# Altium footprint library SFE-Custom-Footprints.PcbLib: 154 footprints (part 5 of 10)
Each footprint in its own frame and in the unit in brackets; x right, y up, seen from the top. Pads: shape width x height; smd on the part's side, far side on the other; paste and mask are expansions set on the pad; w line width, h text height; cw(c..) or ccw(c..) is an arc to the next point about the centre after c.
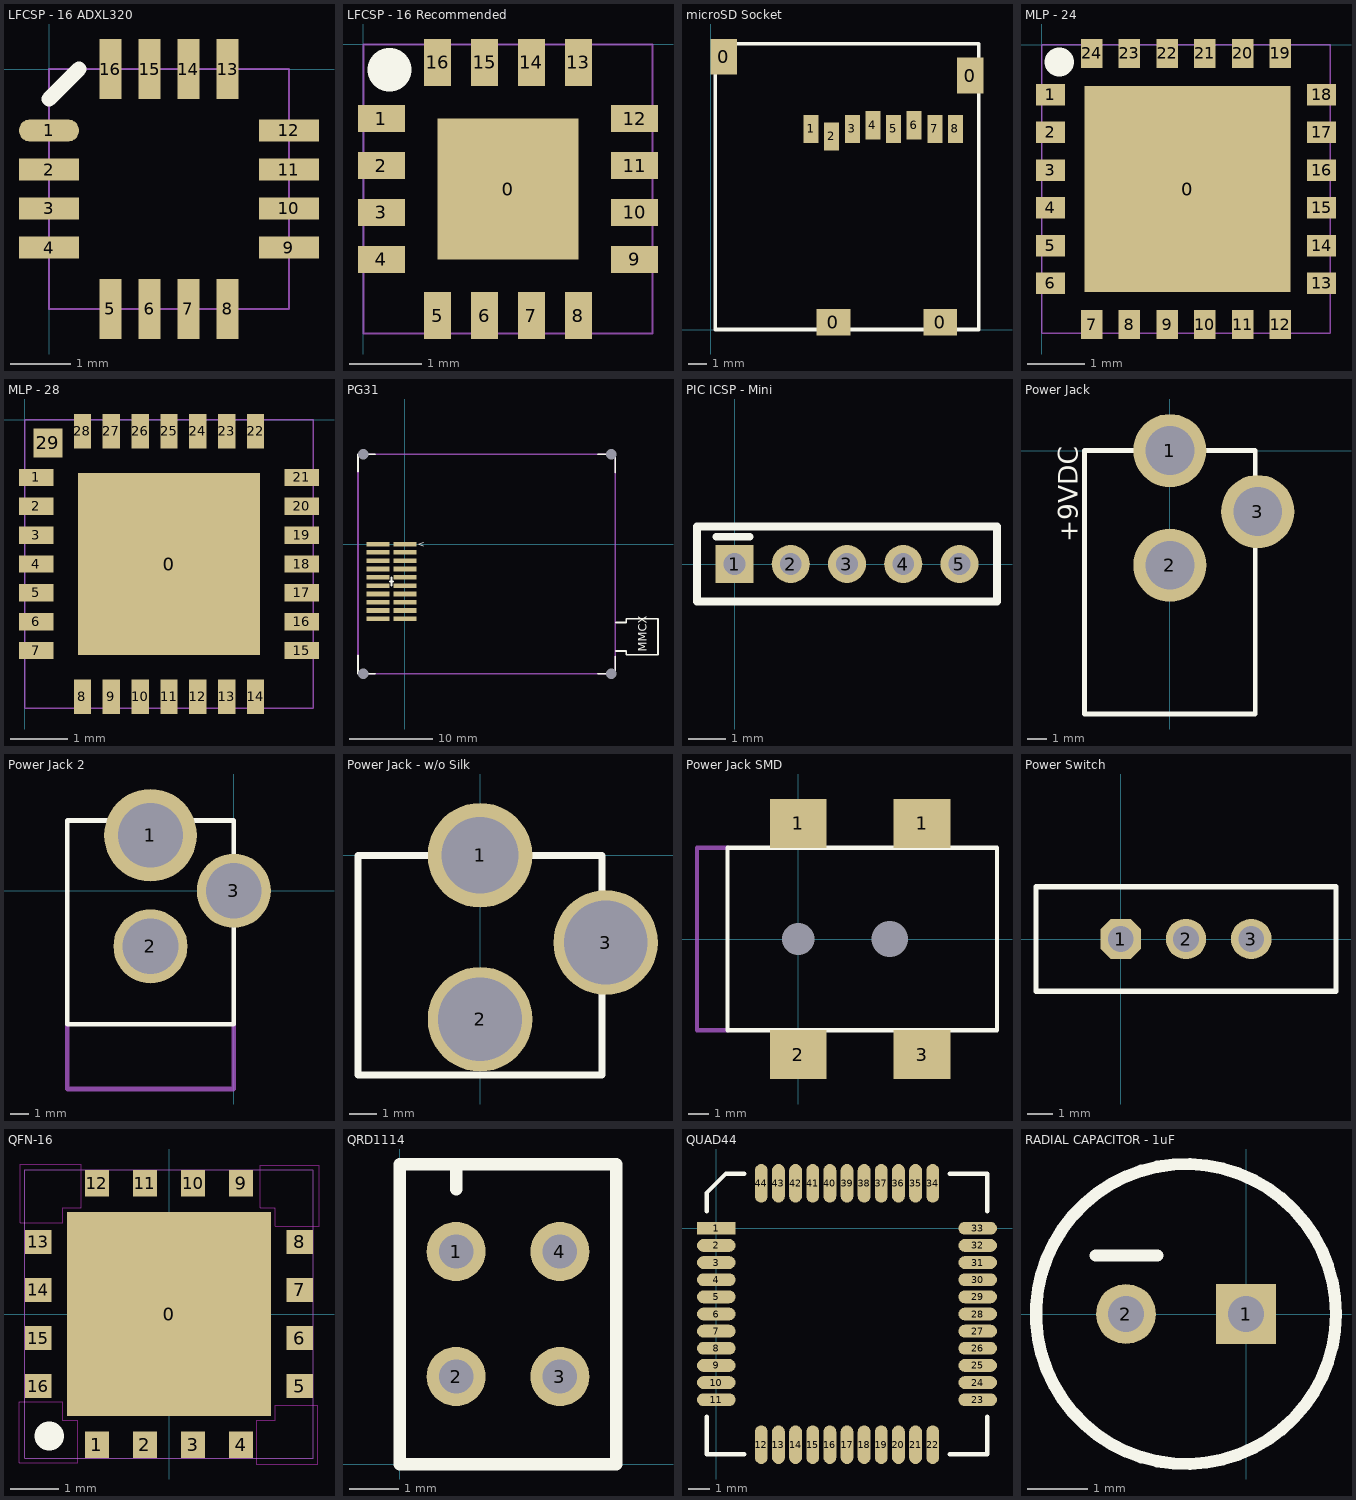
[diagram p4: the footprints below, top view; thin cyan lines are the x and y axes]

## LFCSP - 16 ADXL320 [mm]
pads (16):
  oval 1x0.37 smd: 1(0,-1.025)
  rect 1x0.37 smd: 2(0,-1.675) 3(0,-2.325) 4(0,-2.975) 9(4,-2.975) 10(4,-2.325) 11(4,-1.675) 12(4,-1.025)
  rect 0.37x1 smd: 5(1.025,-4) 6(1.675,-4) 7(2.325,-4) 8(2.975,-4) 13(2.975,0) 14(2.325,0) 15(1.675,0) 16(1.025,0)
Top Overlay:
  lines w0.254: 0,-0.5 0.5,0
Mechanical 1:
  lines w0.025: 0,-4 0,0 4,0 4,-4 0,-4

## LFCSP - 16 Recommended [mm]
pads (17):
  rect 1.95x1.95 smd paste-0.5: 0(2,-2)
  rect 0.65x0.37 smd: 1(0.25,-1.025) 2(0.25,-1.675) 3(0.25,-2.325) 4(0.25,-2.975) 9(3.75,-2.975) 10(3.75,-2.325) 11(3.75,-1.675) 12(3.75,-1.025)
  rect 0.37x0.65 smd: 5(1.025,-3.75) 6(1.675,-3.75) 7(2.325,-3.75) 8(2.975,-3.75) 13(2.975,-0.25) 14(2.325,-0.25) 15(1.675,-0.25) 16(1.025,-0.25)
Top Overlay:
  lines w0.6: 0.356,-0.349 0.366,-0.349
Mechanical 1:
  lines w0.025: 0,-4 0,0 4,0 4,-4 0,-4

## microSD Socket [mm]
pads (12):
  rect 1.4x1.9 smd: 0(0.7,14.55) 0(13.85,13.55)
  rect 1.8x1.4 smd: 0(6.55,0.4) 0(12.25,0.4)
  rect 0.8x1.5 smd: 1(5.36,10.7) 2(6.46,10.3) 3(7.56,10.7) 4(8.66,10.9) 5(9.76,10.7) 6(10.86,10.9) 7(11.96,10.7) 8(13.06,10.7)
Top Overlay:
  lines w0.203: 0.25,0 0.25,15.25 14.3,15.25 14.3,0 0.25,0

## MLP - 24 [mm]
pads (25):
  rect 3.57x3.57 smd paste-1.1: 0(2.53,-2.5)
  rect 0.5x0.37 smd: 1(0.15,-0.865) 2(0.15,-1.519) 3(0.15,-2.173) 4(0.15,-2.827) 5(0.15,-3.481) 6(0.15,-4.135) 13(4.85,-4.135) 14(4.85,-3.481) 15(4.85,-2.827) 16(4.85,-2.173) 17(4.85,-1.519) 18(4.85,-0.865)
  rect 0.37x0.5 smd: 7(0.865,-4.85) 8(1.519,-4.85) 9(2.173,-4.85) 10(2.827,-4.85) 11(3.481,-4.85) 12(4.135,-4.85) 19(4.135,-0.15) 20(3.481,-0.15) 21(2.827,-0.15) 22(2.173,-0.15) 23(1.519,-0.15) 24(0.865,-0.15)
Top Overlay:
  lines w0.508: 0.302,-0.3 0.308,-0.3
Mechanical 1:
  lines w0.025: 0,-5 5,-5 5,0 0,0 0,-5

## MLP - 28 [mm]
pads (30):
  rect 3.15x3.15 smd paste-1.1: 0(2.5,-2.5)
  rect 0.6x0.3 smd: 1(0.2,-1) 2(0.2,-1.5) 3(0.2,-2) 4(0.2,-2.5) 5(0.2,-3) 6(0.2,-3.5) 7(0.2,-4) 15(4.8,-4) 16(4.8,-3.5) 17(4.8,-3) 18(4.8,-2.5) 19(4.8,-2) 20(4.8,-1.5) 21(4.8,-1)
  rect 0.3x0.6 smd: 8(1,-4.8) 9(1.5,-4.8) 10(2,-4.8) 11(2.5,-4.8) 12(3,-4.8) 13(3.5,-4.8) 14(4,-4.8) 22(4,-0.2) 23(3.5,-0.2) 24(3,-0.2) 25(2.5,-0.2) 26(2,-0.2) 27(1.5,-0.2) 28(1,-0.2)
  rect 0.5x0.5 smd paste-0.05: 29(0.4,-0.4)
Mechanical 1:
  lines w0.025: 0,-5 5,-5 5,0 0,0 0,-5

## PG31 [mm]
pads (24):
  round 0 hole 1.27: 0(-5.003,-15.603) 0(-5.003,10.813) 0(24.842,-15.603) 0(24.842,10.813)
  rect 2.755x0.56 smd: 1(0,0) 2(-3.215,0) 3(0,-1) 4(-3.215,-1) 5(0,-2) 6(-3.215,-2) 7(0,-3) 8(-3.215,-3) 9(0,-4) 10(-3.215,-4) 11(0,-5) 12(-3.215,-5) 13(0,-6) 14(-3.215,-6) 15(0,-7) 16(-3.215,-7) 17(0,-8) 18(-3.215,-8) 19(0,-9) 20(-3.215,-9)
Top Overlay:
  lines w0.203: -5.638,-13.379 -5.638,-15.603 -3.552,-15.603 ; -5.638,8.727 -5.638,10.813 -3.552,10.813 ; 23.264,-15.603 25.35,-15.603 25.35,-13.517 ; 23.264,10.813 25.35,10.813 25.35,8.589 ; 25.4,-12.865 26.67,-12.865 26.67,-13.31 30.48,-13.31 30.48,-8.992 26.67,-8.992 26.67,-9.436 25.4,-9.436
  lines w0.254: -1.807,-4.5 -1.407,-4.5 ; -1.607,-5 -1.607,-4
  text "<" at 1.566,-0.386 h0.76
  text "MMCX" at 29.114,-12.973 h1.02
Mechanical 1:
  lines w0.203: 25.35,-15.603 -5.638,-15.603 -5.638,10.813 25.35,10.813 25.35,-15.41

## PIC ICSP - Mini [mil]
pads (5):
  rect 40x40 hole 23: 1(0,0)
  round 40 hole 23: 2(59.05,0) 3(118.11,0) 4(177.16,0) 5(236.22,0)
Top Overlay:
  lines w8: -19.27,28.56 16.02,28.56 ; -39.37,-39.37 275.59,-39.37 275.59,39.37 -39.37,39.37 -39.37,-39.37

## Power Jack [mil]
pads (3):
  round 150 hole 100: 1(0,0) 2(0,-235) 3(180,-125)
Top Overlay:
  lines w10: -175,-540 -175,0 175,0 175,-540 -175,-540
  text "+9VDC" at -189,-188 h40

## Power Jack 2 [mm]
pads (3):
  round 5 hole 3.5: 1(-4.5,3)
  round 4 hole 3: 2(-4.5,-3) 3(0,0)
Top Overlay:
  lines w0.254: -9,-7.2 -9,3.8 0,3.8 0,-7.2 -8.979,-7.2
Mechanical 1:
  lines w0.254: -9,-7.2 -9,-10.7 0,-10.7 0,-7.2

## Power Jack - w/o Silk [mil]
pads (3):
  round 150 hole 110: 1(0,0)
  round 150 hole 120: 2(0,-235) 3(180,-125)
Top Overlay:
  lines w10: -175,-314.96 -175,0 175,0 175,-314.96 -175,-314.96

## Power Jack SMD [mm]
pads (6):
  round 0 hole 1.6: 0(0,0)
  round 0 hole 1.8: 0(4.5,0)
  rect 2.8x2.4 smd: 1(0,5.7) 1(6.1,5.7) 2(0,-5.7) 3(6.1,-5.7)
Top Overlay:
  lines w0.203: -3.5,-4.5 -3.5,4.5 9.8,4.5 9.8,-4.5 -3.5,-4.5
Mechanical 1:
  lines w0.203: -3.5,-4.5 -5,-4.5 -5,4.5 -3.5,4.5

## Power Switch [mil]
pads (3):
  oct 62x62 hole 39.4: 1(0,0)
  round 62 hole 39.4: 2(100,0) 3(200,0)
Top Overlay:
  lines w8: -130,-80 330,-80 330,80 -130,80 -130,-80

## QFN-16 [mm]
pads (17):
  rect 4.25x4.25 smd paste-1.2: 0(0,0)
  rect 0.5x0.55 smd: 1(-1.5,-2.725) 2(-0.5,-2.725) 3(0.5,-2.725) 4(1.5,-2.725) 9(1.5,2.725) 10(0.5,2.725) 11(-0.5,2.725) 12(-1.5,2.725)
  rect 0.55x0.5 smd: 5(2.725,-1.5) 6(2.725,-0.5) 7(2.725,0.5) 8(2.725,1.5) 13(-2.725,1.5) 14(-2.725,0.5) 15(-2.725,-0.5) 16(-2.725,-1.5)
Top Overlay:
  lines w0.6: -2.499,-2.54 -2.489,-2.54
Keep-Out Layer:
  lines w0.025: -3.124,-3.099 -3.124,-1.829 -2.21,-1.829 -2.21,-2.21 -1.905,-2.21 -1.905,-3.099 -3.124,-3.099 ; -3.099,1.905 -3.099,3.124 -1.829,3.124 -1.829,2.21 -2.21,2.21 -2.21,1.905 -3.099,1.905 ; 1.829,-3.124 1.829,-2.21 2.21,-2.21 2.21,-1.905 3.099,-1.905 3.099,-3.124 1.829,-3.124 ; 1.905,2.21 1.905,3.099 3.124,3.099 3.124,1.829 2.21,1.829 2.21,2.21 1.905,2.21
Mechanical 1:
  lines w0.025: -3,-3 -3,3 3,3 3,-3 -3,-3

## QRD1114 [mm]
pads (4):
  round 1.2 hole 0.7: 1(1.143,4.318) 2(1.143,1.778) 3(3.251,1.778) 4(3.251,4.318)
Top Overlay:
  lines w0.254: 1.143,5.588 1.143,6.096 ; 0,0 4.394,0 4.394,6.096 0,6.096 0,0

## QUAD44 [mm]
pads (44):
  rect 1.8x0.6 smd: 1(0,0)
  oval 1.8x0.6 smd: 2(0,-0.8) 3(0,-1.6) 4(0,-2.4) 5(0,-3.2) 6(0,-4) 7(0,-4.8) 8(0,-5.6) 9(0,-6.4) 10(0,-7.2) 11(0,-8) 23(12.2,-8) 24(12.2,-7.2) 25(12.2,-6.4) 26(12.2,-5.6) 27(12.2,-4.8) 28(12.2,-4) 29(12.2,-3.2) 30(12.2,-2.4) 31(12.2,-1.6) 32(12.2,-0.8) 33(12.2,0)
  oval 0.6x1.8 smd: 12(2.1,-10.1) 13(2.9,-10.1) 14(3.7,-10.1) 15(4.5,-10.1) 16(5.3,-10.1) 17(6.1,-10.1) 18(6.9,-10.1) 19(7.7,-10.1) 20(8.5,-10.1) 21(9.3,-10.1) 22(10.1,-10.1) 34(10.1,2.1) 35(9.3,2.1) 36(8.5,2.1) 37(7.7,2.1) 38(6.9,2.1) 39(6.1,2.1) 40(5.3,2.1) 41(4.5,2.1) 42(3.7,2.1) 43(2.9,2.1) 44(2.1,2.1)
Top Overlay:
  lines w0.2: -0.45,-8.8 -0.45,-10.55 1.3,-10.55 ; -0.45,0.8 -0.45,1.65 0.45,2.55 1.3,2.55 ; 10.9,-10.55 12.65,-10.55 12.65,-8.8 ; 10.9,2.55 12.65,2.55 12.65,0.8

## RADIAL CAPACITOR - 1uF [mm]
pads (2):
  rect 1x1 hole 0.6: 1(0,0)
  round 1 hole 0.6: 2(-2,0)
Top Overlay:
  circle w0.203: c-1,0 r2.5
  lines w0.203: -2.505,0.973 -1.477,0.973